# Altium footprint library D2PAK-3_0.PcbLib: 1 footprints
Each footprint in its own frame and in the unit in brackets; x right, y up, seen from the top. Pads: shape width x height; smd on the part's side, far side on the other; paste and mask are expansions set on the pad; w line width, h text height; cw(c..) or ccw(c..) is an arc to the next point about the centre after c.
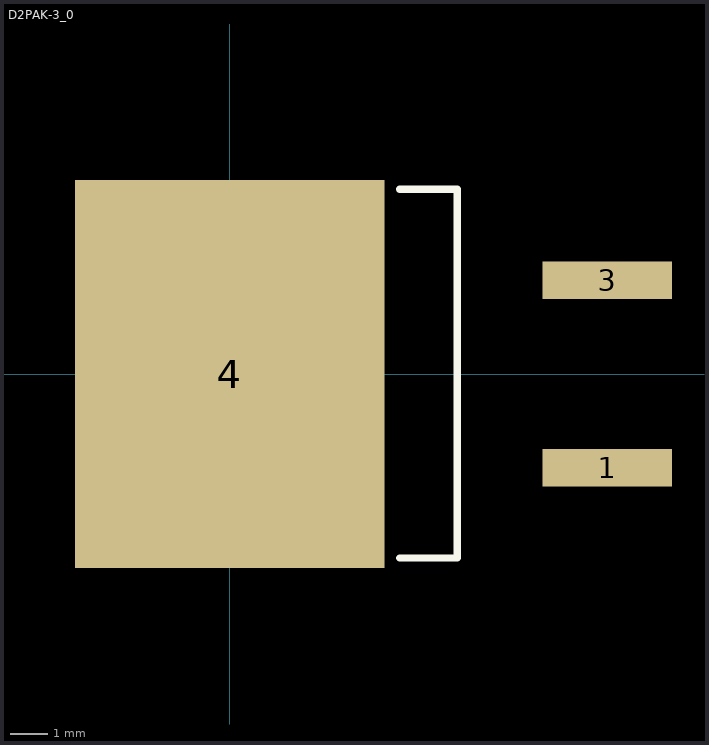
[diagram p0: the footprint, top view; thin cyan lines are the x and y axes]

## D2PAK-3_0 [mil]
pads (3):
  rect 137.95x40 smd: 1(402.09,-100) 3(402.09,100)
  rect 329.92x412.99 smd: 4(0,0)
Top Overlay:
  lines w7.87: 181.1,-195.87 242.13,-195.87 242.13,196.85 181.1,196.85
3D body: height 49.21, standoff 0, extent -157.48,-196.85 -129.92,196.85
3D body "TO263-2-1.stp": height 165.95, standoff -0.19, extent -149.04,-193.34 425.2,193.34